# EAGLE library part LP38690SD-5.0_NOPB (library SamacSys_Parts)
1A Low Dropout CMOS Linear Regulators Stable with Ceramic Output Capacitors Source: Datasheet <http://www.ti.com/lit/gpn/lp38690>
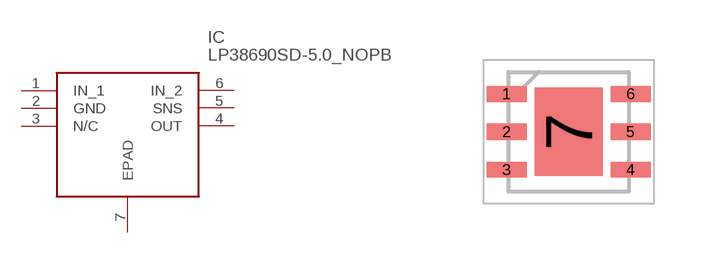
[diagram p10: symbol with the pads of SON95P300X300X80-7N; footprint SON95P300X300X80-7N]

Designator prefix IC

## LP38690SD-5.0_NOPB (DESCRIPTION: 1A Low Dropout CMOS Linear Regulators Stable with Ceramic Output Capacitors; HEIGHT: 0.8mm; MANUFACTURER_NAME: Texas Instruments; MANUFACTURER_PART_NUMBER: LP38690SD-5.0/NOPB; MOUSER_PART_NUMBER: 926-LP38690SD50NOPB; MOUSER_PRICE-STOCK: https://www.mouser.com/Search/Refine.aspx?Keyword=926-LP38690SD50NOPB; RS_PART_NUMBER: 926-LP38690SD50NOPB; RS_PRICE-STOCK: https://www.mouser.com/Search/Refine.aspx?Keyword=926-LP38690SD50NOPB)  [SON95P300X300X80-7N]
1  IN_1
2  GND
3  N/C  nc
4  OUT
5  SNS
6  IN_2
7  EPAD

## Footprint SON95P300X300X80-7N (pad centres in mm)
LP38690SD-3.3/NOPB
smd 1 x 0.4: 1 -1.55,0.95; 2 -1.55,0; 3 -1.55,-0.95; 4 1.55,-0.95; 5 1.55,0; 6 1.55,0.95
smd 1.7 x 2.2: 7 0,0